# Altium schematic symbol library FETs.SchLib: 17 symbols
Pins are listed as number, name and electrical type; pins without a type are passive.

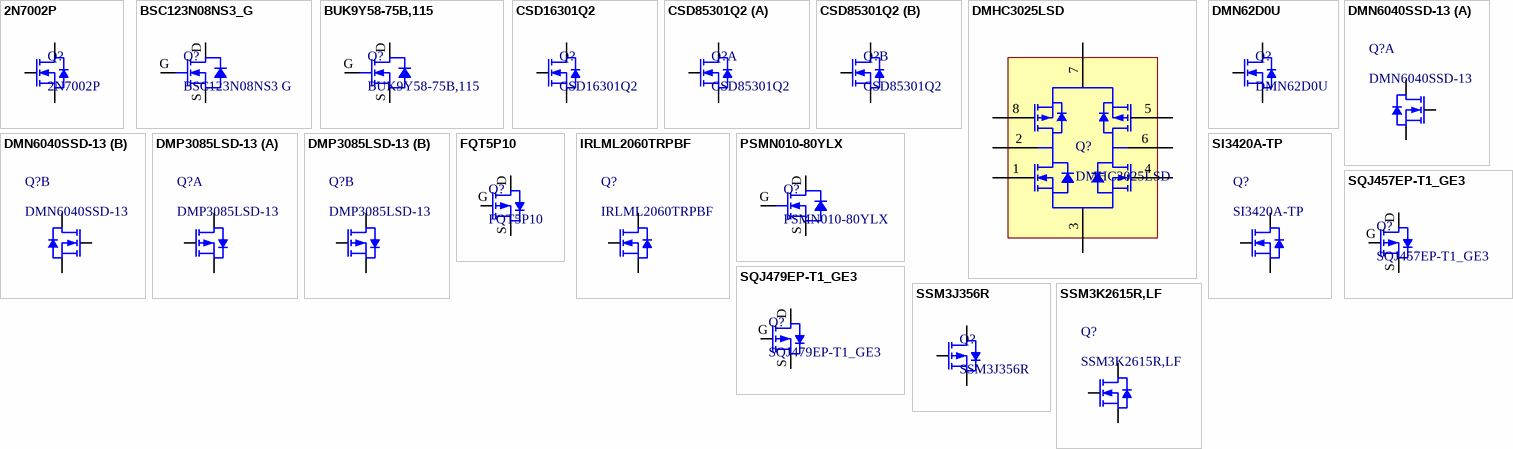
[diagram p0: symbols 2N7002P to SSM3K2615R,LF]

## 2N7002P
designator Q?
60V, 350mA NFET (1.6 Ohms); Supplier 1: Digi-Key; Supplier Part Number 1: 568-5818-1-ND; Supplier 2: Arrow; Supplier Part Number 2: R6vCwsmHM0IDD3L_F9PCiIvvOKSlBwEz9uxWJ5CWpWY
footprint 2N7002P - SOT95P230X110-3N (SOT23, 3-Leads, Body 2.90x2.30mm, Pitch 0.95mm, IPC Medium Density)
simulation model 2N7002 (NFET)
pins: 1 G, 2 S, 3 D

## BSC123N08NS3_G
designator Q?, comment BSC123N08NS3 G
80V 12.3mOhm NFET, SOT-556, 11A; Supplier 1: Mouser; Supplier Part Number 1: 726-BSC123N08NS3G; Supplier 2: Digi-Key; Supplier Part Number 2: BSC123N08NS3 GCT-ND; Supplier 3: Arrow; Supplier Part Number 3: o8yTc7lr4Ji5pgNkq07Z1Tt6BJjbBESsJ0AAHFtpPh0r0i16bV38YFAwSAco-jd2
footprint LFPAK56_UNIVERSAL
pins: D, G, S

## BUK9Y58-75B,115
designator Q?
75V 50mOhm NFET, SOT-556, Logic Level Gate; Supplier 1: Digi-Key; Supplier Part Number 1: 1727-4617-1-ND
footprint LFPAK56_UNIVERSAL
pins: D, G, S

## CSD16301Q2
designator Q?
25-V N-Channel Power MOSFET, 20mOhm, 2nC Qg
simulation model CSD16301Q2A (Model Description)
footprint CSD16301Q2 - SON65P200X80_HS-7M (SON, 6-Leads, Body 2.00x2.00mm, Pitch 0.65mm, Thermal Pad 0.95x0.89mm, IPC Low Density)
pins: D, G, S

## CSD85301Q2
designator Q?
Dual 20V, NFET (0.03 Ohms); Supplier 1: Digi-Key; Supplier Part Number 1: 568-5818-1-ND; Supplier 2: Arrow; Supplier Part Number 2: R6vCwsmHM0IDD3L_F9PCiIvvOKSlBwEz9uxWJ5CWpWY
footprint CSD85301Q2 - SON65P200X80_HS-7M (SON, 6-Leads, Body 2.00x2.00mm, Pitch 0.65mm, Thermal Pad 2.00x0.89mm, IPC Low Density)
simulation model CSD85301Q2 (Model Description)
part A pins: 1, 2, 6
part B pins: 3, 4, 5

## DMHC3025LSD
designator Q?
2NMOS/2PMOS H-Bridge Transistor, 8-SOP
footprint DMHC3025LSD - SOIC127P600X175-8N (SOIC, 8-Leads, Body 4.9x4.0mm (max), Pitch 1.27mm, IPC Medium Density)
simulation model DMHC3025LSD (Model Description)
pins: 1 N1G, 2 P1D/N1D, 3 N1S/N2S, 4 N2G, 5 P2G, 6 P2D/N2D, 7 P1S/P2S, 8 P1G

## DMN62D0U
designator Q?
60V, 350mA NFET (1.6 Ohms), 3.3V gate compatible; Supplier 1: Digi-Key; Supplier Part Number 1: DMN62D0U-7DICT-ND; Supplier 2: Digi-Key; Supplier Part Number 2: DMN62D0U-13DICT-ND; Supplier 3: Arrow; Supplier Part Number 3: uHBHy2kYELeaNcy9iOsTYi8d8a0zuzDTdlpq8hfVRvY; Supplier 4: Digi-Key; Supplier Part Number 4: DMN61D9U-7DICT-ND
footprint 2N7002P - SOT95P230X110-3N (SOT23, 3-Leads, Body 2.90x2.30mm, Pitch 0.95mm, IPC Medium Density)
simulation model BSS138P (NFET)
pins: 1 G, 2 S, 3 D

## DMN6040SSD-13
designator Q?
60V Dual NFET
footprint DMN6040SSD-13 (SOP, 8-Leads, Body 4.9x4.0mm (max), Pitch 1.27mm, IPC Medium Density)
part A pins: 1 S, 2 G, 7 D
part B pins: 3 S, 4 G, 5 D

## DMP3085LSD-13
designator Q?
30V, 95 mOhm Dual PFET; Supplier 1: Digi-Key; Supplier Part Number 1: DMP3085LSD-13DICT-ND
footprint DMP3085LSD-13 (SOP, 8-Leads, Body 4.9x4.0mm (max), Pitch 1.27mm, IPC Medium Density)
part A pins: 1 S, 2 G, 7 D
part B pins: 3 S, 4 G, 5 D

## FQT5P10
designator Q?
100V PFET, 1 Ohm Rdson 1A rating; Supplier 1: Digi-Key; Supplier Part Number 1: FQT5P10TFCT-ND; Supplier 2: Arrow; Supplier Part Number 2: hcN-OD42_LtHnSGAD-qmVtvZxf5qH--vwKcNUJM8Ku0
footprint FQT5P10 - SOT230P700X180-4N (SOT223, 4-Leads, Body 6.7x7.3mm (max), Pitch 2.30mm, IPC Medium Density)
simulation model FQT5P10 (PFET)
pins: D, G, S

## IRLML2060TRPBF
designator Q?
60V, 480 mOhm NFET; Manufacturer: International Rectifier; FET Type: MOSFET N-Channel, Metal Oxide; FET Feature: Logic Level Gate; Current - Continuous Drain (Id) @ 25°C: 1.2A (Ta); Rds On (Max) @ Id, Vgs: 480 mOhm @ 1.2A, 10V; Vgs(th) (Max) @ Id: 2.5V @ 25µA; Gate Charge (Qg) @ Vgs: 0.67nC @ 4.5V; Input Capacitance (Ciss) @ Vds: 64pF @ 25V; Power - Max: 1.25W; Supplier 1: Digi-Key; Manufacturer Part Number: IRLML2060TRPBF; RoHS: RoHS Compliant; Category: Discrete Semiconductor Products; Stock 1: 29210; Pricing 1: 1=0.48, 10=0.272, 25=0.2344, 50=0.1974, 100=0.1766, 250=0.16048, 500=0.14438, 1000=0.13516 (CAD); Packaging: Cut Tape (CT); Drain to Source Voltage (Vdss): 60V; Mounting Type: Surface Mount; Package / Case: TO-236-3, SC-59, SOT-23-3; Supplier Device Package: Micro3™/SOT-23; ComponentLink1URL: http://www.irf.com/product-info/datasheets/data/irlml2060pbf.pdf; ComponentLink1Description: http://www.irf.com/product-info/datasheets/data/irlml2060pbf.pdf; Supplier Part Number 1: IRLML2060TRPBFCT-ND; Supplier 2: Mouser; Supplier Part Number 2: 942-IRLML2060TRPBF; Supplier 3: Digi-Key; Supplier 4: Mouser; Supplier 5: Digi-Key; Supplier Part Number 3: DMN6140L-7DICT-ND; Supplier Part Number 4: 621-DMN6140L-7; Supplier Part Number 5: DMN6140L-13DICT-ND
footprint IRLML2060TRPBF - SOT95P255X112-3N (SOT23, 3-Leads, Body 2.92x2.55mm, Pitch 0.95mm, IPC Medium Density)
pins: 1 G, 2 S, 3 D

## PSMN010-80YLX
designator Q?
80V 10mOhm NFET, SOT-556; Supplier 1: Digi-Key; Supplier Part Number 1: 568-13039-1-ND
footprint LFPAK56_UNIVERSAL
pins: D, G, S

## SI3420A-TP
designator Q?
60V, 480 mOhm NFET; Manufacturer: International Rectifier; Manufacturer Part Number: IRLML2060TRPBF; FET Type: MOSFET N-Channel, Metal Oxide; FET Feature: Logic Level Gate; Current - Continuous Drain (Id) @ 25°C: 1.2A (Ta); Rds On (Max) @ Id, Vgs: 480 mOhm @ 1.2A, 10V; Vgs(th) (Max) @ Id: 2.5V @ 25µA; Gate Charge (Qg) @ Vgs: 0.67nC @ 4.5V; Input Capacitance (Ciss) @ Vds: 64pF @ 25V; Power - Max: 1.25W; RoHS: RoHS Compliant; Category: Discrete Semiconductor Products; Stock 1: 29210; Pricing 1: 1=0.48, 10=0.272, 25=0.2344, 50=0.1974, 100=0.1766, 250=0.16048, 500=0.14438, 1000=0.13516 (CAD); Packaging: Cut Tape (CT); Drain to Source Voltage (Vdss): 60V; Mounting Type: Surface Mount; Package / Case: TO-236-3, SC-59, SOT-23-3; Supplier Device Package: Micro3™/SOT-23; ComponentLink1URL: http://www.irf.com/product-info/datasheets/data/irlml2060pbf.pdf; ComponentLink1Description: http://www.irf.com/product-info/datasheets/data/irlml2060pbf.pdf; Supplier 1: Digi-Key; Supplier 2: Mouser; Supplier Part Number 1: SI3420A-TPMSCT-ND; Supplier Part Number 2: 833-SI3420A-TP
footprint IRLML2060TRPBF - SOT95P255X112-3N (SOT23, 3-Leads, Body 2.92x2.55mm, Pitch 0.95mm, IPC Medium Density)
pins: 1 G, 2 S, 3 D

## SQJ457EP-T1_GE3
designator Q?
60V PFET, 35mOhm RdsON, logic level gate(ish); Supplier 1: Digi-Key; Supplier Part Number 1: SQJ457EP-T1_GE3CT-ND; Supplier 2: Arrow; Supplier Part Number 2: t3o9F7CmCFEJTuTkWM7UswUA9mdB6AtGQ1g75Cgule8
footprint LFPAK56_UNIVERSAL
pins: D, G, S

## SQJ479EP-T1_GE3
designator Q?
80V PFET, 33mOhm RdsON; Supplier 1: Digi-Key; Supplier Part Number 1: SQJ479EP-T1_GE3CT-ND
footprint LFPAK56_UNIVERSAL
pins: D, G, S

## SSM3J356R
designator Q?
60V, 1.8A PFET; Supplier 1: Digi-Key; Supplier Part Number 1: SSM3J356RLFCT-ND; Supplier 2: Digi-Key; Supplier Part Number 2: CPH3351-TL-WOSCT-ND; Supplier 3: Arrow
footprint 2N7002P - SOT95P230X110-3N (SOT23, 3-Leads, Body 2.90x2.30mm, Pitch 0.95mm, IPC Medium Density)
pins: 1 G, 2 S, 3 D

## SSM3K2615R,LF
designator Q?
N-Channel 60V 2A (Ta) 1W (Ta) Surface Mount SOT-23F; Supplier 1: Digi-Key; Supplier 2: Mouser; Supplier Part Number 2: 757-SSM3K2615RLF; Supplier Part Number 1: SSM3K2615RLFCT-ND
footprint IRLML2060TRPBF - SOT95P255X112-3N (SOT23, 3-Leads, Body 2.92x2.55mm, Pitch 0.95mm, IPC Medium Density)
pins: 1 G, 2 S, 3 D